# Altium schematic symbol library WL-STTB.SchLib: 1 symbol
Pins are listed as number, name and electrical type; pins without a type are passive.

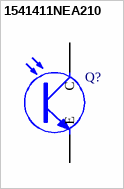
[diagram p0: symbol 1541411NEA210]

## 1541411NEA210
designator Q?  (value not drawn)
WL-STTB SMT Phototransistor Top Black, size 3528, 700-1100nm, 2.8mA, 120°; Manufacturer: Wurth Elektronik; Case/Size Code: 3528; Chip Technology: Si; Collector Current Min: 0.6mA; Collector-Emitter Dark Current: 100nA; Polarity: NPN Phototransistor; Range of Spectral Bandwidth Min: 700nm; Range of Spectral Bandwidth Max: 1100nm; Wavelength of Peak Sensitivity: 940nm; ComponentLink1Description: Website Link; ComponentLink1URL: https://www.we-online.com/redexpert/article/1541411NEA210?ad; ComponentLink2Description: Datasheet Link; ComponentLink2URL: https://www.we-online.com/redexpert/spec/1541411NEA210?ad; Manufacturer Part Number: 1541411NEA210; Category: Phototransistors; Match Code: WL-STTB; Mount: Surface Mount; Operating Temperature Max: 85°C; Operating Temperature Min: -40°C; Packaging: Tape and Reel; Length: 3.5mm; Width: 2.8mm; Height: 1.9mm; Collector Current: 2.8mA; Viewing Angle: 120°
footprint WL-STTB_3528
pins: 1 C, 2 E